# Altium schematic symbol library Leo_Integrated_SCHLibrary.SchLib: 15 symbols
Pins are listed as number, name and electrical type; pins without a type are passive.

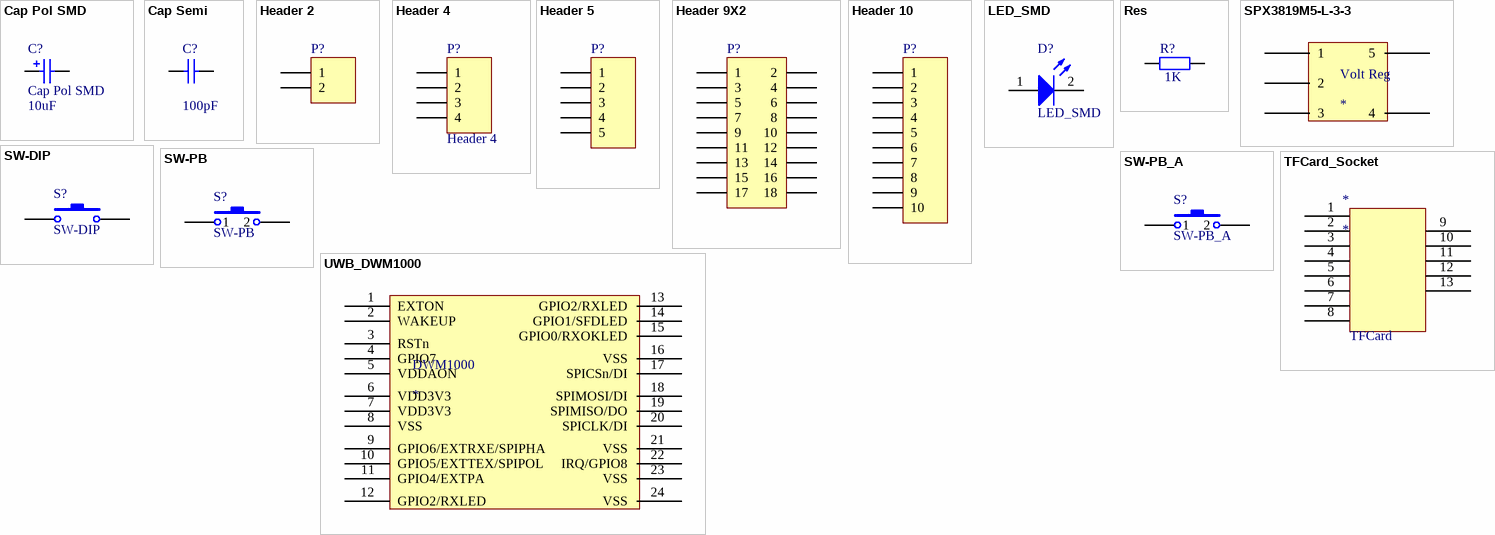
[diagram p0: symbols Cap Pol SMD to UWB_DWM1000]

## Cap Pol SMD
designator C?  value 10uF
Polarized Capacitor (Surface Mount); Published: 8-Jun-2000; LatestRevisionDate: 17-Jul-2002; LatestRevisionNote: Re-released for DXP Platform.; PackageReference: C0805; Publisher: Altium Limited
simulation model CAP (Capacitor)
signal-integrity model Cap Pol
footprint CP1206(3216)
footprint CP0603 (Chip Capacitor; Body 1.6 x 0.8 mm (LxW typ))
pins: 1, 2
1 alternate drawing of the same symbol

## Cap Semi
designator C?  value 100pF
Capacitor (Semiconductor SIM Model); Published: 8-Jun-2000; LatestRevisionDate: 17-Jul-2002; LatestRevisionNote: Re-released for DXP Platform.; PackageReference: C1206; Publisher: Altium Limited
simulation model CAP (Semiconductor Capacitor)
signal-integrity model Cap Semi
footprint C0402
footprint C0603 (Chip Capacitor; Body 1.6 x 0.8 mm (LxW typ))
footprint C0805
pins: 1, 2

## Header 2
designator P?
Header, 2-Pin; LatestRevisionDate: 17-Jul-2002; LatestRevisionNote: Re-released for DXP Platform.; Publisher: Altium Limited
signal-integrity model Connector
footprint Head_Base_1X2 (Connector; Header; 2 Position)
footprint HEAD_DIP_1.27_1X2 (Connector; Header; 2 Position)
footprint HEAD_DIP_2.54_1X2 (Connector; Header; 2 Position)
footprint Head_Base_Angle_1X2 (Connector; Header; 2 Position)
pins: 1, 2

## Header 4
designator P?
Header, 4-Pin; LatestRevisionDate: 17-Jul-2002; LatestRevisionNote: Re-released for DXP Platform.; Publisher: Altium Limited
signal-integrity model Connector
footprint Head_Base_1X4 (Connector; Header; 4 Position)
footprint Head_Base_Angle_1X4 (Connector; Header; 4 Position)
pins: 1, 2, 3, 4

## Header 5
designator P?
Header, 5-Pin; LatestRevisionDate: 17-Jul-2002; LatestRevisionNote: Re-released for DXP Platform.; Publisher: Altium Limited
signal-integrity model Connector
footprint HEAD_DIP_2.54_1X5 (Connector; Header; 5 Position)
pins: 1, 2, 3, 4, 5

## Header 9X2
designator P?
Header, 9-Pin, Dual row; LatestRevisionDate: 17-Jul-2002; LatestRevisionNote: Re-released for DXP Platform.; Publisher: Altium Limited
signal-integrity model Connector
footprint HEAD_DIP_2.54_2X9 (Connector; Header; 9x2 Position)
pins: 1, 2, 3, 4, 5, 6, 7, 8, 9, 10, 11, 12, 13, 14, 15, 16, 17, 18

## Header 10
designator P?
Header, 10-Pin; LatestRevisionDate: 17-Jul-2002; LatestRevisionNote: Re-released for DXP Platform.; Publisher: Altium Limited
signal-integrity model Connector
footprint HEAD_DIP_2.54_1X10 (Connector; Header; 10 Position)
pins: 1, 2, 3, 4, 5, 6, 7, 8, 9, 10

## LED_SMD
designator D?
Typical RED, GREEN, YELLOW, AMBER GaAs LED; Published: 8-Jun-2000; LatestRevisionDate: 17-Jul-2002; LatestRevisionNote: Re-released for DXP Platform.; PackageDocument: Feb-2002; PackageReference: 3.2X1.6X1.1; Publisher: Altium Limited
simulation model LED2 (Diode)
footprint LED0603_RED (SMD Super Bright LED, RED)
footprint LED0603_GREEN (SMD Super Bright LED, GREEN)
footprint LED0603_YELLOW (SMD Super Bright LED, YELLOW)
footprint LED_DIP_1.27_1X2 (Connector; Header; 2 Position)
pins: 1, 2

## Res
designator R?  value 1K  (hidden comment: Res)
Resistor; Published: 8-Jun-2000; LatestRevisionDate: 17-Jul-2002; LatestRevisionNote: Re-released for DXP Platform.; PackageReference: AXIAL-0.4; Publisher: Altium Limited
simulation model RESISTOR (Resistor)
signal-integrity model Res
footprint R0603 (Chip Resistor; Body 1.6 x 0.8 mm (LxW typ))
pins: 1, 2

## SPX3819M5-L-3-3
designator Volt Reg
footprint SOT23-5_N (SOT23, 5-Leads, Body 2.9x1.6mm, Pitch 0.95mm, Lead Span 2.8mm, IPC Medium Density)
pins: 1, 2, 3, 4, 5

## SW-DIP
designator S?
Switch; Published: 24-Mar-1999; LatestRevisionDate: 17-Jul-2002; LatestRevisionNote: Re-released for DXP Platform.; PackageReference: SPST-2; Publisher: Altium Limited
footprint SW_DIP5; pin to pad 1>4
pins: 1, 2

## SW-PB
designator S?
Switch; Published: 24-Mar-1999; LatestRevisionDate: 17-Jul-2002; LatestRevisionNote: Re-released for DXP Platform.; PackageReference: SPST-2; Publisher: Altium Limited
footprint SW_PB (6.2?.5mm TACT Switch, without ground connector)
pins: 1, 2

## SW-PB_A
designator S?
Switch
footprint SW_DIP_Angle_3 (Switch;3DIP;Angle)
pins: 1, 2

## TFCard_Socket
designator *
footprint TFCard_Socket
pins: 1, 2, 3, 4, 5, 6, 7, 8, 9, 10, 11, 12, 13
text: TFCard

## UWB_DWM1000
designator DWM1000
footprint UWB_DWM1000
pins: 1 EXTON, 2 WAKEUP, 3 RSTn, 4 GPIO7, 5 VDDAON, 6 VDD3V3, 7 VDD3V3, 8 VSS, 9 GPIO6/EXTRXE/SPIPHA, 10 GPIO5/EXTTEX/SPIPOL, 11 GPIO4/EXTPA, 12 GPIO2/RXLED, 13 GPIO2/RXLED, 14 GPIO1/SFDLED, 15 GPIO0/RXOKLED, 16 VSS, 17 SPICSn/DI, 18 SPIMOSI/DI, 19 SPIMISO/DO, 20 SPICLK/DI, 21 VSS, 22 IRQ/GPIO8, 23 VSS, 24 VSS